# Altium footprint library ArrayResistors.PcbLib: 5 footprints
Each footprint in its own frame and in the unit in brackets; x right, y up, seen from the top. Pads: shape width x height; smd on the part's side, far side on the other; paste and mask are expansions set on the pad; w line width, h text height; cw(c..) or ccw(c..) is an arc to the next point about the centre after c.
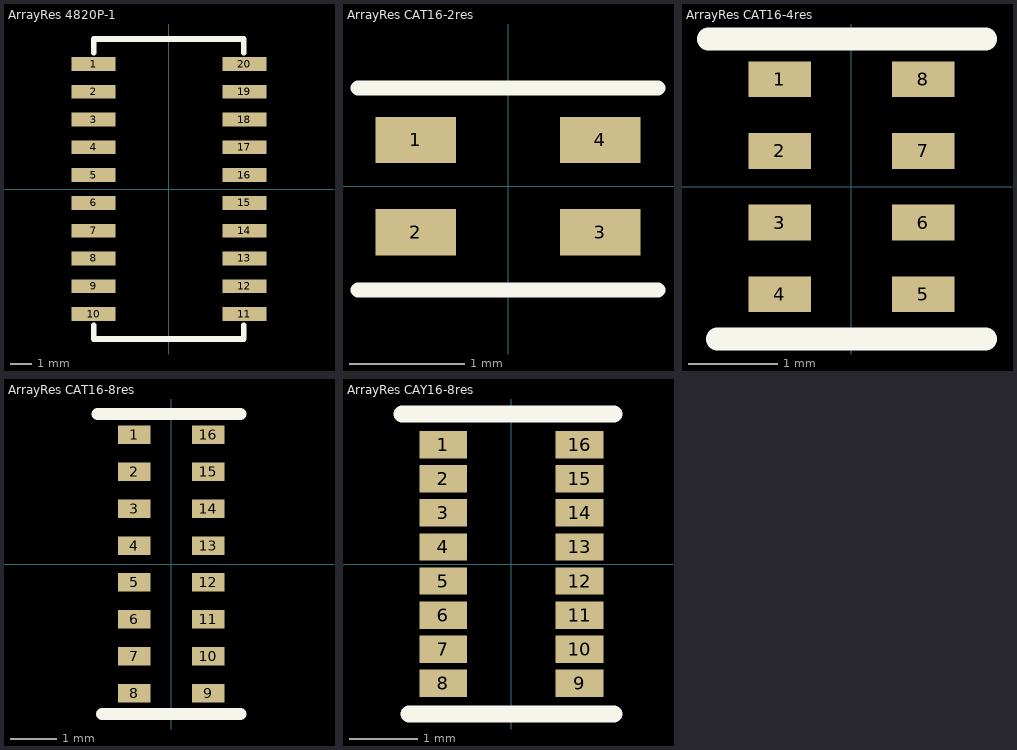
[diagram p0: the footprints below, top view; thin cyan lines are the x and y axes]

## ArrayRes 4820P-1 [mm] "marca Bourns"
pads (20):
  rect 2x0.63 smd: 1(-3.45,5.715) 2(-3.45,4.445) 3(-3.45,3.175) 4(-3.45,1.905) 5(-3.45,0.635) 6(-3.45,-0.635) 7(-3.45,-1.905) 8(-3.45,-3.175) 9(-3.45,-4.445) 10(-3.45,-5.715) 11(3.45,-5.715) 12(3.45,-4.445) 13(3.45,-3.175) 14(3.45,-1.905) 15(3.45,-0.635) 16(3.45,0.635) 17(3.45,1.905) 18(3.45,3.175) 19(3.45,4.445) 20(3.45,5.715)
Top Overlay:
  lines w0.254: -3.45,-6.223 -3.45,-6.858 3.408,-6.858 3.408,-6.223 ; -3.45,6.223 -3.45,6.858 3.408,6.858 3.408,6.223
3D body "ArrayResistors-10res.STEP": height 1.14, standoff 0, extent -3.427,-6.86 3.385,6.86

## ArrayRes CAT16-2res [mm] "marca Bourns"
pads (4):
  rect 0.7x0.4 smd: 1(-0.8,0.4) 2(-0.8,-0.4) 3(0.8,-0.4) 4(0.8,0.4)
Top Overlay:
  lines w0.127: -1.3,-0.9 1.3,-0.9 ; -1.3,0.85 1.3,0.85
3D body "ArrayResistors_cat16-2res.STEP": height 0.55, standoff 0, extent -0.8,-0.8 0.8,0.8

## ArrayRes CAT16-4res [mm] "marca Bourns"
pads (8):
  rect 0.7x0.4 smd: 1(-0.8,1.2) 2(-0.8,0.4) 3(-0.8,-0.4) 4(-0.8,-1.2) 5(0.8,-1.2) 6(0.8,-0.4) 7(0.8,0.4) 8(0.8,1.2)
Top Overlay:
  lines w0.254: -1.6,1.65 1.5,1.65 ; -1.5,-1.7 1.5,-1.7
3D body "ArrayResistors_cat16-4res.STEP": height 0.51, standoff -0.4, extent -0.991,-1.61 0.94,1.611

## ArrayRes CAT16-8res [mm] "marca Bourns"
pads (16):
  rect 0.7x0.4 smd: 1(-0.8,2.8) 2(-0.8,2) 3(-0.8,1.2) 4(-0.8,0.4) 5(-0.8,-0.4) 6(-0.8,-1.2) 7(-0.8,-2) 8(-0.8,-2.8) 9(0.8,-2.8) 10(0.8,-2) 11(0.8,-1.2) 12(0.8,-0.4) 13(0.8,0.4) 14(0.8,1.2) 15(0.8,2) 16(0.8,2.8)
Top Overlay:
  lines w0.254: -1.6,3.25 1.5,3.25 ; -1.5,-3.25 1.5,-3.25
3D body "ArrayResistors_cat16-8res.STEP": height 0.55, standoff 0, extent -0.8,-3.2 0.8,3.2

## ArrayRes CAY16-8res [mm] "marca Bourns"
pads (16):
  rect 0.7x0.4 smd: 1(-1,1.75) 2(-1,1.25) 3(-1,0.75) 4(-1,0.25) 5(-1,-0.25) 6(-1,-0.75) 7(-1,-1.25) 8(-1,-1.75) 9(1,-1.75) 10(1,-1.25) 11(1,-0.75) 12(1,-0.25) 13(1,0.25) 14(1,0.75) 15(1,1.25) 16(1,1.75)
Top Overlay:
  lines w0.254: -1.6,2.2 1.5,2.2 ; -1.5,-2.2 1.5,-2.2
3D body "cay16-8res.STEP": height 0.55, standoff 0, extent -0.8,-1.9 0.8,1.9